# EAGLE library part SMD4SW (library HuskyRobotics2017-18)
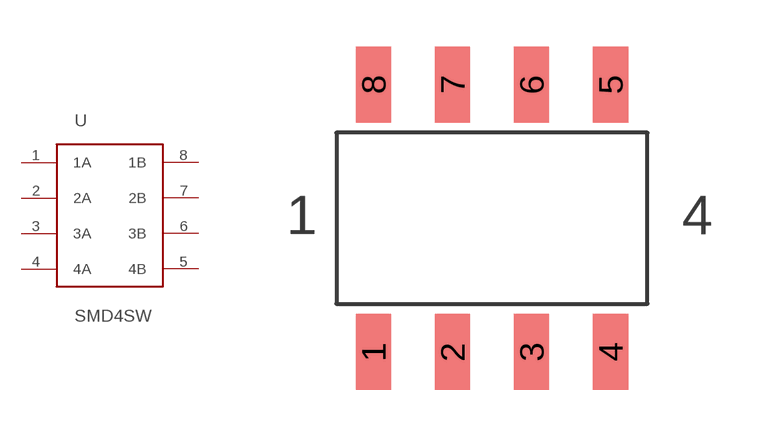
[diagram p3: symbol with the pads of GULL8; footprint GULL8]

Designator prefix -

## SMD4SWSMD4SW  [GULL8]
1  1A
2  2A
3  3A
4  4A
5  4B
6  3B
7  2B
8  1B

## Footprint GULL8 (pad centres in mm)
smd 1.13 x 2.44: 1 -3.81,-4.3; 2 -1.27,-4.3; 3 1.27,-4.3; 4 3.81,-4.3; 5 3.81,4.3; 6 1.27,4.3; 7 -1.27,4.3; 8 -3.81,4.3